# EAGLE library part 2X3 (library headers(.1in))
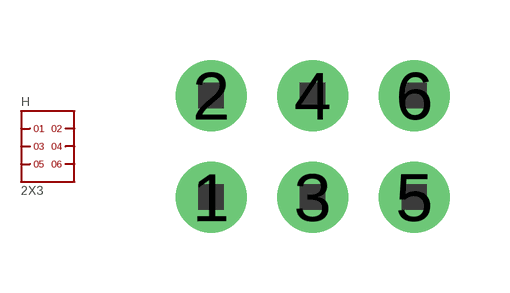
[diagram p3: symbol with the pads of 2X3; footprint 2X3]

Designator prefix H

## 2X3  [2X3]
1  1
2  2
3  3
4  4
5  5
6  6

## Footprint 2X3 (pad centres in mm)
drill 1.016 pad 1.778: 1 0,0; 2 0,2.54; 3 2.54,0; 4 2.54,2.54; 5 5.08,0; 6 5.08,2.54